# Altium footprint library Package_DFN_QFN_SON.PcbLib: 78 footprints (part 3 of 5)
Each footprint in its own frame and in the unit in brackets; x right, y up, seen from the top. Pads: shape width x height; smd on the part's side, far side on the other; paste and mask are expansions set on the pad; w line width, h text height; cw(c..) or ccw(c..) is an arc to the next point about the centre after c.
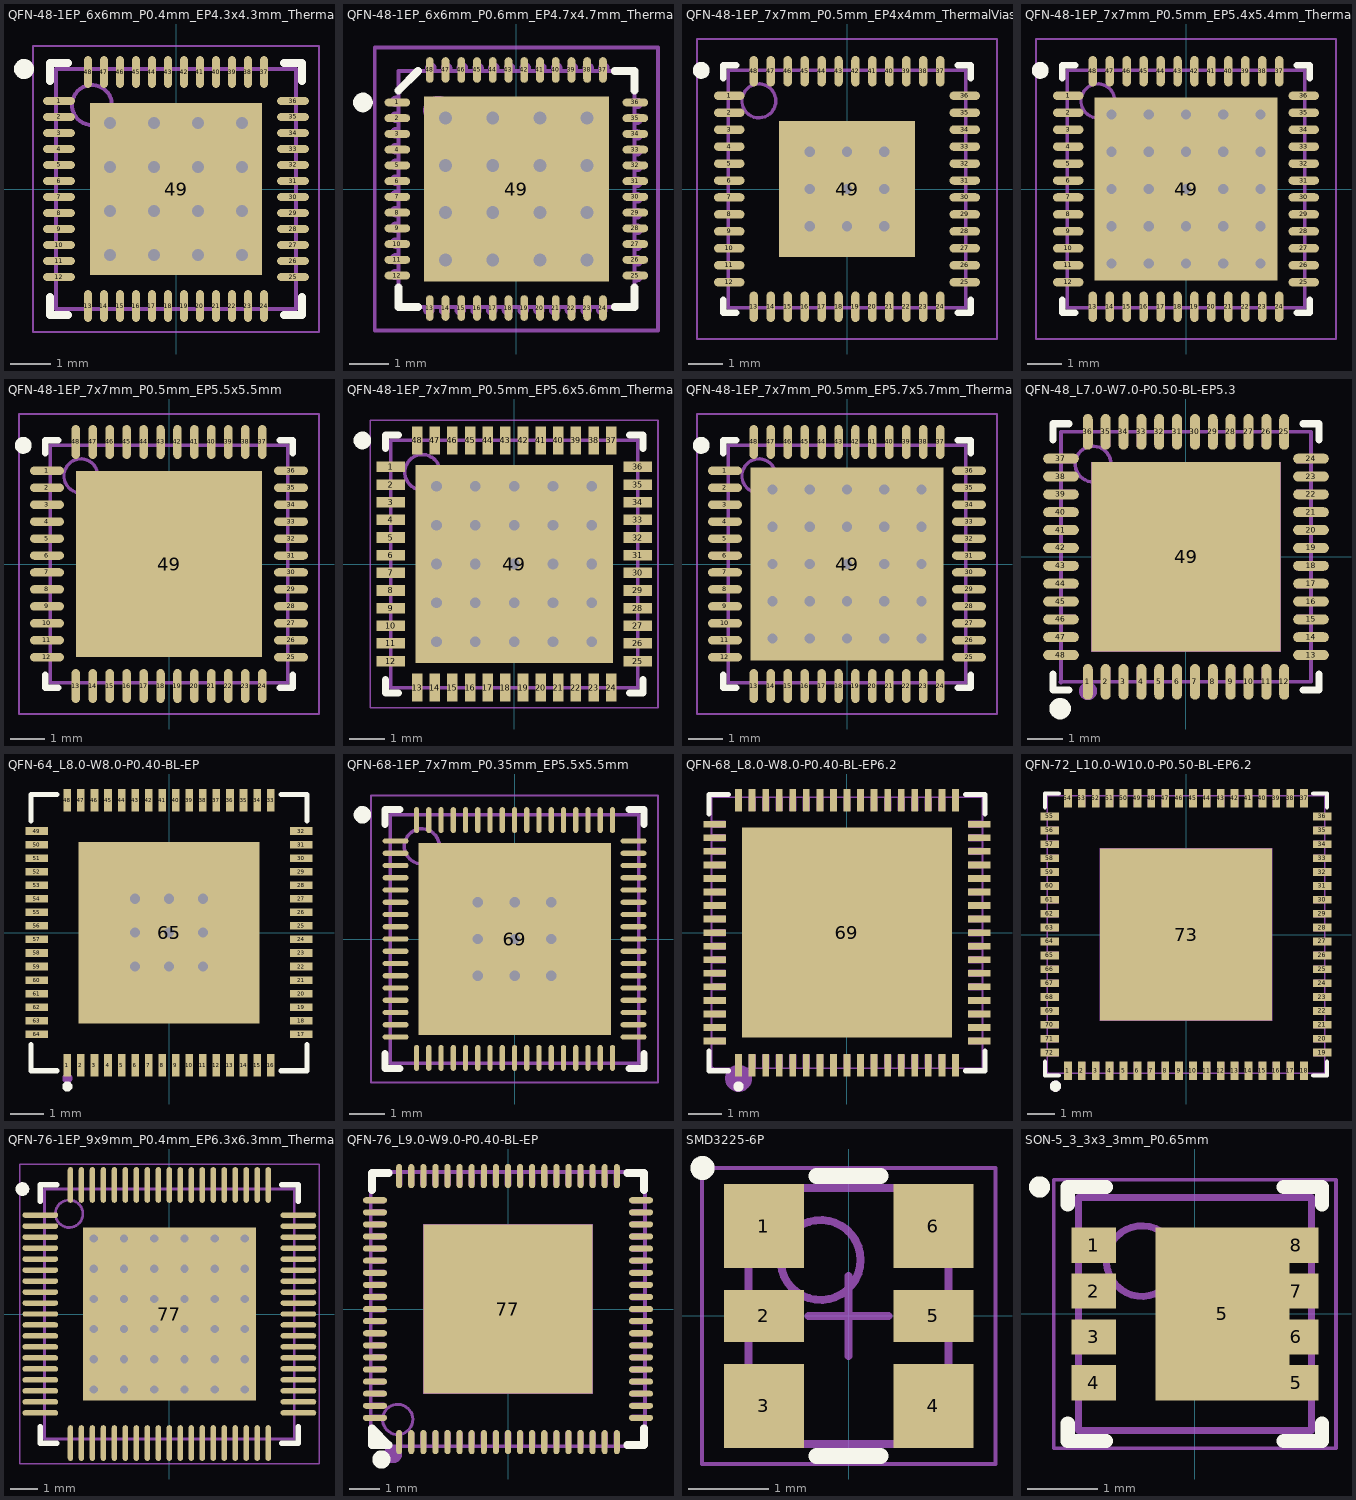
[diagram p2: the footprints below, top view; thin cyan lines are the x and y axes]

## QFN-48-1EP_6x6mm_P0.4mm_EP4.3x4.3mm_ThermalVias [mm] "QFN, 48-Leads, Body 6.00x6.00mm, Pitch 0.40mm, Thermal Pad 4.30x4.30mm, IPC Medium Density"
height 0.94
pads (49):
  oval 0.8x0.2 smd: 1(-2.925,2.2) 2(-2.925,1.8) 3(-2.925,1.4) 4(-2.925,1) 5(-2.925,0.6) 6(-2.925,0.2) 7(-2.925,-0.2) 8(-2.925,-0.6) 9(-2.925,-1) 10(-2.925,-1.4) 11(-2.925,-1.8) 12(-2.925,-2.2) 25(2.925,-2.2) 26(2.925,-1.8) 27(2.925,-1.4) 28(2.925,-1) 29(2.925,-0.6) 30(2.925,-0.2) 31(2.925,0.2) 32(2.925,0.6) 33(2.925,1) 34(2.925,1.4) 35(2.925,1.8) 36(2.925,2.2)
  oval 0.2x0.8 smd: 13(-2.2,-2.925) 14(-1.8,-2.925) 15(-1.4,-2.925) 16(-1,-2.925) 17(-0.6,-2.925) 18(-0.2,-2.925) 19(0.2,-2.925) 20(0.6,-2.925) 21(1,-2.925) 22(1.4,-2.925) 23(1.8,-2.925) 24(2.2,-2.925) 37(2.2,2.925) 38(1.8,2.925) 39(1.4,2.925) 40(1,2.925) 41(0.6,2.925) 42(0.2,2.925) 43(-0.2,2.925) 44(-0.6,2.925) 45(-1,2.925) 46(-1.4,2.925) 47(-1.8,2.925) 48(-2.2,2.925)
  rect 4.3x4.3 smd: 49(0,0)
via -1.65,-0.55 diameter 0.5 hole 0.3
via -0.55,-0.55 diameter 0.5 hole 0.3
via 0.55,-0.55 diameter 0.5 hole 0.3
via 1.65,-0.55 diameter 0.5 hole 0.3
via -1.65,-1.65 diameter 0.5 hole 0.3
via -0.55,-1.65 diameter 0.5 hole 0.3
via 0.55,-1.65 diameter 0.5 hole 0.3
via 1.65,-1.65 diameter 0.5 hole 0.3
via -1.65,1.65 diameter 0.5 hole 0.3
via -0.55,1.65 diameter 0.5 hole 0.3
via 0.55,1.65 diameter 0.5 hole 0.3
via 1.65,1.65 diameter 0.5 hole 0.3
via -1.65,0.55 diameter 0.5 hole 0.3
via -0.55,0.55 diameter 0.5 hole 0.3
via 0.55,0.55 diameter 0.5 hole 0.3
via 1.65,0.55 diameter 0.5 hole 0.3
Top Overlay:
  circle w0.25: c-3.8,3 r0.125
  lines w0.2: -3.15,-2.7 -3.15,-3.15 -2.7,-3.15 ; -3.15,2.7 -3.15,3.15 -2.7,3.15 ; 2.7,-3.15 3.15,-3.15 3.15,-2.7 ; 2.7,3.15 3.15,3.15 3.15,2.7
Mechanical 13:
  circle w0.1: c-2.1,2.1 r0.5
  lines w0.1: -3,-3 3,-3 3,3 -3,3 -3,-3
Mechanical 15:
  lines w0.05: -3.575,-3.575 3.575,-3.575 3.575,3.575 -3.575,3.575 -3.575,-3.575
  lines w0.1: -0.5,0 0.5,0 ; 0,-0.5 0,0.5
3D body "QFN40P600X600X94_HS-49N.step": height 0.94, standoff 0, extent -3.01,-3.01 3.01,3.01

## QFN-48-1EP_6x6mm_P0.6mm_EP4.7x4.7mm_ThermalVias [mm]
pads (49):
  oval 0.65x0.2 smd mask+0.05: 1(-3.025,2.2) 2(-3.025,1.8) 3(-3.025,1.4) 4(-3.025,1) 5(-3.025,0.6) 6(-3.025,0.2) 7(-3.025,-0.2) 8(-3.025,-0.6) 9(-3.025,-1) 10(-3.025,-1.4) 11(-3.025,-1.8) 12(-3.025,-2.2) 25(3.025,-2.2) 26(3.025,-1.8) 27(3.025,-1.4) 28(3.025,-1) 29(3.025,-0.6) 30(3.025,-0.2) 31(3.025,0.2) 32(3.025,0.6) 33(3.025,1) 34(3.025,1.4) 35(3.025,1.8) 36(3.025,2.2)
  oval 0.2x0.65 smd mask+0.05: 13(-2.2,-3.025) 14(-1.8,-3.025) 15(-1.4,-3.025) 16(-1,-3.025) 17(-0.6,-3.025) 18(-0.2,-3.025) 19(0.2,-3.025) 20(0.6,-3.025) 21(1,-3.025) 22(1.4,-3.025) 23(1.8,-3.025) 24(2.2,-3.025) 37(2.2,3.025) 38(1.8,3.025) 39(1.4,3.025) 40(1,3.025) 41(0.6,3.025) 42(0.2,3.025) 43(-0.2,3.025) 44(-0.6,3.025) 45(-1,3.025) 46(-1.4,3.025) 47(-1.8,3.025) 48(-2.2,3.025)
  rect 4.7x4.7 smd: 49(0,0)
via 1.8,-1.8 diameter 0.66 hole 0.33
via 0.6,-1.8 diameter 0.66 hole 0.33
via -0.6,-1.8 diameter 0.66 hole 0.33
via -1.8,-1.8 diameter 0.66 hole 0.33
via 1.8,-0.6 diameter 0.66 hole 0.33
via 0.6,-0.6 diameter 0.66 hole 0.33
via -0.6,-0.6 diameter 0.66 hole 0.33
via -1.8,-0.6 diameter 0.66 hole 0.33
via 1.8,0.6 diameter 0.66 hole 0.33
via 0.6,0.6 diameter 0.66 hole 0.33
via -0.6,0.6 diameter 0.66 hole 0.33
via -1.8,0.6 diameter 0.66 hole 0.33
via 1.8,1.8 diameter 0.66 hole 0.33
via 0.6,1.8 diameter 0.66 hole 0.33
via -0.6,1.8 diameter 0.66 hole 0.33
via -1.8,1.8 diameter 0.66 hole 0.33
Top Overlay:
  circle w0.25: c-3.9,2.2 r0.125
  lines w0.2: -3,-2.5 -3,-3 -2.5,-3 ; -3,2.5 -2.5,3 ; 2.5,-3 3,-3 3,-2.5 ; 2.5,3 3,3 3,2.5
Mechanical 7:
  circle w0.1: c-2,2 r0.32
  lines w0.1: -3,-2.269 -3.071,-2.269 cw(c-3.071,-2.174) -3.071,-2.079 -3,-2.079 ; -3,-1.869 -3.071,-1.869 cw(c-3.071,-1.774) -3.071,-1.679 -3,-1.679 ; -3,-1.469 -3.071,-1.469 cw(c-3.071,-1.374) -3.071,-1.279 -3,-1.279 ; -3,-1.069 -3.071,-1.069 cw(c-3.071,-0.974) -3.071,-0.879 -3,-0.879 ; -3,-0.669 -3.071,-0.669 cw(c-3.071,-0.574) -3.071,-0.479 -3,-0.479 ; -3,-0.269 -3.071,-0.269 cw(c-3.071,-0.174) -3.071,-0.079 -3,-0.079 ; -3,0.131 -3.071,0.131 cw(c-3.071,0.226) -3.071,0.321 -3,0.321 ; -3,0.531 -3.071,0.531 cw(c-3.071,0.626) -3.071,0.721 -3,0.721 ; -3,0.931 -3.071,0.931 cw(c-3.071,1.026) -3.071,1.121 -3,1.121 ; -3,1.331 -3.071,1.331 cw(c-3.071,1.426) -3.071,1.521 -3,1.521 ; -3,1.731 -3.071,1.731 cw(c-3.071,1.826) -3.071,1.921 -3,1.921 ; -3,2.131 -3.071,2.131 cw(c-3.071,2.226) -3.071,2.321 -3,2.321 ; -2.321,-3 -2.321,-3.071 ccw(c-2.226,-3.071) -2.131,-3.071 -2.131,-3 ; -2.269,3 -2.269,3.071 cw(c-2.174,3.071) -2.079,3.071 -2.079,3 ; -1.921,-3 -1.921,-3.071 ccw(c-1.826,-3.071) -1.731,-3.071 -1.731,-3 ; -1.869,3 -1.869,3.071 cw(c-1.774,3.071) -1.679,3.071 -1.679,3 ; -1.521,-3 -1.521,-3.071 ccw(c-1.426,-3.071) -1.331,-3.071 -1.331,-3 ; -1.469,3 -1.469,3.071 cw(c-1.374,3.071) -1.279,3.071 -1.279,3 ; -1.121,-3 -1.121,-3.071 ccw(c-1.026,-3.071) -0.931,-3.071 -0.931,-3 ; -1.069,3 -1.069,3.071 cw(c-0.974,3.071) -0.879,3.071 -0.879,3 ; -0.721,-3 -0.721,-3.071 ccw(c-0.626,-3.071) -0.531,-3.071 -0.531,-3 ; -0.669,3 -0.669,3.071 cw(c-0.574,3.071) -0.479,3.071 -0.479,3 ; -0.321,-3 -0.321,-3.071 ccw(c-0.226,-3.071) -0.131,-3.071 -0.131,-3 ; -0.269,3 -0.269,3.071 cw(c-0.174,3.071) -0.079,3.071 -0.079,3 ; 0.079,-3 0.079,-3.071 ccw(c0.174,-3.071) 0.269,-3.071 0.269,-3 ; 0.131,3 0.131,3.071 cw(c0.226,3.071) 0.321,3.071 0.321,3 ; 0.479,-3 0.479,-3.071 ccw(c0.574,-3.071) 0.669,-3.071 0.669,-3 ; 0.531,3 0.531,3.071 cw(c0.626,3.071) 0.721,3.071 0.721,3 ; 0.879,-3 0.879,-3.071 ccw(c0.974,-3.071) 1.069,-3.071 1.069,-3 ; 0.931,3 0.931,3.071 cw(c1.026,3.071) 1.121,3.071 1.121,3 ; 1.279,-3 1.279,-3.071 ccw(c1.374,-3.071) 1.469,-3.071 1.469,-3 ; 1.331,3 1.331,3.071 cw(c1.426,3.071) 1.521,3.071 1.521,3 ; 1.679,-3 1.679,-3.071 ccw(c1.774,-3.071) 1.869,-3.071 1.869,-3 ; 1.731,3 1.731,3.071 cw(c1.826,3.071) 1.921,3.071 1.921,3 ; 2.079,-3 2.079,-3.071 ccw(c2.174,-3.071) 2.269,-3.071 2.269,-3 ; 2.131,3 2.131,3.071 cw(c2.226,3.071) 2.321,3.071 2.321,3 ; 3,-2.321 3.071,-2.321 ccw(c3.071,-2.226) 3.071,-2.131 3,-2.131 ; 3,-1.921 3.071,-1.921 ccw(c3.071,-1.826) 3.071,-1.731 3,-1.731 ; 3,-1.521 3.071,-1.521 ccw(c3.071,-1.426) 3.071,-1.331 3,-1.331 ; 3,-1.121 3.071,-1.121 ccw(c3.071,-1.026) 3.071,-0.931 3,-0.931 ; 3,-0.721 3.071,-0.721 ccw(c3.071,-0.626) 3.071,-0.531 3,-0.531 ; 3,-0.321 3.071,-0.321 ccw(c3.071,-0.226) 3.071,-0.131 3,-0.131 ; 3,0.079 3.071,0.079 ccw(c3.071,0.174) 3.071,0.269 3,0.269 ; 3,0.479 3.071,0.479 ccw(c3.071,0.574) 3.071,0.669 3,0.669 ; 3,0.879 3.071,0.879 ccw(c3.071,0.974) 3.071,1.069 3,1.069 ; 3,1.279 3.071,1.279 ccw(c3.071,1.374) 3.071,1.469 3,1.469 ; 3,1.679 3.071,1.679 ccw(c3.071,1.774) 3.071,1.869 3,1.869 ; 3,2.079 3.071,2.079 ccw(c3.071,2.174) 3.071,2.269 3,2.269 ; -3,-3 3,-3 3,3 -3,3 -3,-3
  text ".Designator" at -1.1,-0.2 h0.38
Mechanical 15:
  lines w0.1: -0.5,0 0.5,0 ; 0,-0.5 0,0.5 ; -3.6,-3.6 3.6,-3.6 3.6,3.6 -3.6,3.6 -3.6,-3.6
3D body "User Library-QFN48.step": height 0.86, standoff -0.01, extent -3.02,-3.02 3.02,3.02

## QFN-48-1EP_7x7mm_P0.5mm_EP4x4mm_ThermalVias [mm] "QFN, 48-Leads, Body 7.00x7.00mm, Pitch 0.50mm, Thermal Pad 5.40x5.40mm, IPC Low Density"
height 0.94
pads (49):
  oval 0.9x0.25 smd: 1(-3.475,2.75) 2(-3.475,2.25) 3(-3.475,1.75) 4(-3.475,1.25) 5(-3.475,0.75) 6(-3.475,0.25) 7(-3.475,-0.25) 8(-3.475,-0.75) 9(-3.475,-1.25) 10(-3.475,-1.75) 11(-3.475,-2.25) 12(-3.475,-2.75) 25(3.475,-2.75) 26(3.475,-2.25) 27(3.475,-1.75) 28(3.475,-1.25) 29(3.475,-0.75) 30(3.475,-0.25) 31(3.475,0.25) 32(3.475,0.75) 33(3.475,1.25) 34(3.475,1.75) 35(3.475,2.25) 36(3.475,2.75)
  oval 0.25x0.9 smd: 13(-2.75,-3.475) 14(-2.25,-3.475) 15(-1.75,-3.475) 16(-1.25,-3.475) 17(-0.75,-3.475) 18(-0.25,-3.475) 19(0.25,-3.475) 20(0.75,-3.475) 21(1.25,-3.475) 22(1.75,-3.475) 23(2.25,-3.475) 24(2.75,-3.475) 37(2.75,3.475) 38(2.25,3.475) 39(1.75,3.475) 40(1.25,3.475) 41(0.75,3.475) 42(0.25,3.475) 43(-0.25,3.475) 44(-0.75,3.475) 45(-1.25,3.475) 46(-1.75,3.475) 47(-2.25,3.475) 48(-2.75,3.475)
  rect 4x4 smd: 49(0,0)
via 1.1,-1.1 diameter 0.5 hole 0.3
via 0,-1.1 diameter 0.5 hole 0.3
via -1.1,-1.1 diameter 0.5 hole 0.3
via 1.1,0 diameter 0.5 hole 0.3
via 0,0 diameter 0.5 hole 0.3
via -1.1,0 diameter 0.5 hole 0.3
via 1.1,1.1 diameter 0.5 hole 0.3
via 0,1.1 diameter 0.5 hole 0.3
via -1.1,1.1 diameter 0.5 hole 0.3
Top Overlay:
  circle w0.25: c-4.3,3.5 r0.125
  lines w0.2: -3.65,-3.275 -3.65,-3.65 -3.275,-3.65 ; -3.65,3.275 -3.65,3.65 -3.275,3.65 ; 3.275,-3.65 3.65,-3.65 3.65,-3.275 ; 3.275,3.65 3.65,3.65 3.65,3.275
Mechanical 13:
  circle w0.1: c-2.6,2.6 r0.5
  lines w0.1: -3.5,-3.5 3.5,-3.5 3.5,3.5 -3.5,3.5 -3.5,-3.5
Mechanical 15:
  lines w0.05: -4.425,-4.425 4.425,-4.425 4.425,4.425 -4.425,4.425 -4.425,-4.425
  lines w0.1: -0.5,0 0.5,0 ; 0,-0.5 0,0.5
3D body "QFN50P700X700X94_HS-49M.step": height 0.94, standoff 0, extent -3.51,-3.51 3.51,3.51

## QFN-48-1EP_7x7mm_P0.5mm_EP5.4x5.4mm_ThermalVias [mm] "QFN, 48-Leads, Body 7.00x7.00mm, Pitch 0.50mm, Thermal Pad 5.40x5.40mm, IPC Low Density"
height 0.94
pads (49):
  oval 0.9x0.25 smd: 1(-3.475,2.75) 2(-3.475,2.25) 3(-3.475,1.75) 4(-3.475,1.25) 5(-3.475,0.75) 6(-3.475,0.25) 7(-3.475,-0.25) 8(-3.475,-0.75) 9(-3.475,-1.25) 10(-3.475,-1.75) 11(-3.475,-2.25) 12(-3.475,-2.75) 25(3.475,-2.75) 26(3.475,-2.25) 27(3.475,-1.75) 28(3.475,-1.25) 29(3.475,-0.75) 30(3.475,-0.25) 31(3.475,0.25) 32(3.475,0.75) 33(3.475,1.25) 34(3.475,1.75) 35(3.475,2.25) 36(3.475,2.75)
  oval 0.25x0.9 smd: 13(-2.75,-3.475) 14(-2.25,-3.475) 15(-1.75,-3.475) 16(-1.25,-3.475) 17(-0.75,-3.475) 18(-0.25,-3.475) 19(0.25,-3.475) 20(0.75,-3.475) 21(1.25,-3.475) 22(1.75,-3.475) 23(2.25,-3.475) 24(2.75,-3.475) 37(2.75,3.475) 38(2.25,3.475) 39(1.75,3.475) 40(1.25,3.475) 41(0.75,3.475) 42(0.25,3.475) 43(-0.25,3.475) 44(-0.75,3.475) 45(-1.25,3.475) 46(-1.75,3.475) 47(-2.25,3.475) 48(-2.75,3.475)
  rect 5.4x5.4 smd: 49(0,0)
via 2.2,-2.2 diameter 0.5 hole 0.3
via 1.1,-2.2 diameter 0.5 hole 0.3
via 0,-2.2 diameter 0.5 hole 0.3
via -1.1,-2.2 diameter 0.5 hole 0.3
via -2.2,-2.2 diameter 0.5 hole 0.3
via 2.2,-1.1 diameter 0.5 hole 0.3
via 1.1,-1.1 diameter 0.5 hole 0.3
via 0,-1.1 diameter 0.5 hole 0.3
via -1.1,-1.1 diameter 0.5 hole 0.3
via -2.2,-1.1 diameter 0.5 hole 0.3
via 2.2,0 diameter 0.5 hole 0.3
via 1.1,0 diameter 0.5 hole 0.3
via 0,0 diameter 0.5 hole 0.3
via -1.1,0 diameter 0.5 hole 0.3
via -2.2,0 diameter 0.5 hole 0.3
via 2.2,1.1 diameter 0.5 hole 0.3
via 1.1,1.1 diameter 0.5 hole 0.3
via 0,1.1 diameter 0.5 hole 0.3
via -1.1,1.1 diameter 0.5 hole 0.3
via -2.2,1.1 diameter 0.5 hole 0.3
via 2.2,2.2 diameter 0.5 hole 0.3
via 1.1,2.2 diameter 0.5 hole 0.3
via 0,2.2 diameter 0.5 hole 0.3
via -1.1,2.2 diameter 0.5 hole 0.3
via -2.2,2.2 diameter 0.5 hole 0.3
Top Overlay:
  circle w0.25: c-4.3,3.5 r0.125
  lines w0.2: -3.65,-3.275 -3.65,-3.65 -3.275,-3.65 ; -3.65,3.275 -3.65,3.65 -3.275,3.65 ; 3.275,-3.65 3.65,-3.65 3.65,-3.275 ; 3.275,3.65 3.65,3.65 3.65,3.275
Mechanical 13:
  circle w0.1: c-2.6,2.6 r0.5
  lines w0.1: -3.5,-3.5 3.5,-3.5 3.5,3.5 -3.5,3.5 -3.5,-3.5
Mechanical 15:
  lines w0.05: -4.425,-4.425 4.425,-4.425 4.425,4.425 -4.425,4.425 -4.425,-4.425
  lines w0.1: -0.5,0 0.5,0 ; 0,-0.5 0,0.5
3D body "QFN50P700X700X94_HS-49M.step": height 0.94, standoff 0, extent -3.51,-3.51 3.51,3.51

## QFN-48-1EP_7x7mm_P0.5mm_EP5.5x5.5mm [mm] "QFN, 48-Leads, Body 7.00x7.00mm, Pitch 0.50mm, Thermal Pad 5.70x5.70mm, IPC Low Density"
height 0.94
pads (49):
  oval 1x0.25 smd: 1(-3.6,2.75) 2(-3.6,2.25) 3(-3.6,1.75) 4(-3.6,1.25) 5(-3.6,0.75) 6(-3.6,0.25) 7(-3.6,-0.25) 8(-3.6,-0.75) 9(-3.6,-1.25) 10(-3.6,-1.75) 11(-3.6,-2.25) 12(-3.6,-2.75) 25(3.6,-2.75) 26(3.6,-2.25) 27(3.6,-1.75) 28(3.6,-1.25) 29(3.6,-0.75) 30(3.6,-0.25) 31(3.6,0.25) 32(3.6,0.75) 33(3.6,1.25) 34(3.6,1.75) 35(3.6,2.25) 36(3.6,2.75)
  oval 0.25x1 smd: 13(-2.75,-3.6) 14(-2.25,-3.6) 15(-1.75,-3.6) 16(-1.25,-3.6) 17(-0.75,-3.6) 18(-0.25,-3.6) 19(0.25,-3.6) 20(0.75,-3.6) 21(1.25,-3.6) 22(1.75,-3.6) 23(2.25,-3.6) 24(2.75,-3.6) 37(2.75,3.6) 38(2.25,3.6) 39(1.75,3.6) 40(1.25,3.6) 41(0.75,3.6) 42(0.25,3.6) 43(-0.25,3.6) 44(-0.75,3.6) 45(-1.25,3.6) 46(-1.75,3.6) 47(-2.25,3.6) 48(-2.75,3.6)
  rect 5.5x5.5 smd: 49(0,0)
Top Overlay:
  circle w0.25: c-4.3,3.5 r0.125
  lines w0.2: -3.65,-3.275 -3.65,-3.65 -3.275,-3.65 ; -3.65,3.275 -3.65,3.65 -3.275,3.65 ; 3.275,-3.65 3.65,-3.65 3.65,-3.275 ; 3.275,3.65 3.65,3.65 3.65,3.275
Mechanical 13:
  circle w0.1: c-2.6,2.6 r0.5
  lines w0.1: -3.5,-3.5 -3.5,3.5 3.5,3.5 3.5,-3.5 -3.5,-3.5
Mechanical 15:
  lines w0.05: -4.425,-4.425 -4.425,4.425 4.425,4.425 4.425,-4.425 -4.425,-4.425
  lines w0.1: -0.5,0 0.5,0 ; 0,-0.5 0,0.5
3D body "QFN50P700X700X94_HS-49M.step": height 0.94, standoff 0, extent -3.51,-3.51 3.51,3.51

## QFN-48-1EP_7x7mm_P0.5mm_EP5.6x5.6mm_ThermalVias [mm] "QFN, 48-Leads, Body 7.00x7.00mm, Pitch 0.50mm, Thermal Pad 5.60x5.60mm, IPC Medium Density"
height 0.5
pads (49):
  rect 0.8x0.3 smd: 1(-3.5,2.75) 2(-3.5,2.25) 3(-3.5,1.75) 4(-3.5,1.25) 5(-3.5,0.75) 6(-3.5,0.25) 7(-3.5,-0.25) 8(-3.5,-0.75) 9(-3.5,-1.25) 10(-3.5,-1.75) 11(-3.5,-2.25) 12(-3.5,-2.75) 25(3.5,-2.75) 26(3.5,-2.25) 27(3.5,-1.75) 28(3.5,-1.25) 29(3.5,-0.75) 30(3.5,-0.25) 31(3.5,0.25) 32(3.5,0.75) 33(3.5,1.25) 34(3.5,1.75) 35(3.5,2.25) 36(3.5,2.75)
  rect 0.3x0.8 smd: 13(-2.75,-3.5) 14(-2.25,-3.5) 15(-1.75,-3.5) 16(-1.25,-3.5) 17(-0.75,-3.5) 18(-0.25,-3.5) 19(0.25,-3.5) 20(0.75,-3.5) 21(1.25,-3.5) 22(1.75,-3.5) 23(2.25,-3.5) 24(2.75,-3.5) 37(2.75,3.5) 38(2.25,3.5) 39(1.75,3.5) 40(1.25,3.5) 41(0.75,3.5) 42(0.25,3.5) 43(-0.25,3.5) 44(-0.75,3.5) 45(-1.25,3.5) 46(-1.75,3.5) 47(-2.25,3.5) 48(-2.75,3.5)
  rect 5.6x5.6 smd: 49(0,0)
via 2.2,-2.2 diameter 0.5 hole 0.3
via 1.1,-2.2 diameter 0.5 hole 0.3
via 0,-2.2 diameter 0.5 hole 0.3
via -1.1,-2.2 diameter 0.5 hole 0.3
via -2.2,-2.2 diameter 0.5 hole 0.3
via 2.2,-1.1 diameter 0.5 hole 0.3
via 1.1,-1.1 diameter 0.5 hole 0.3
via 0,-1.1 diameter 0.5 hole 0.3
via -1.1,-1.1 diameter 0.5 hole 0.3
via -2.2,-1.1 diameter 0.5 hole 0.3
via 2.2,0 diameter 0.5 hole 0.3
via 1.1,0 diameter 0.5 hole 0.3
via 0,0 diameter 0.5 hole 0.3
via -1.1,0 diameter 0.5 hole 0.3
via -2.2,0 diameter 0.5 hole 0.3
via 2.2,1.1 diameter 0.5 hole 0.3
via 1.1,1.1 diameter 0.5 hole 0.3
via 0,1.1 diameter 0.5 hole 0.3
via -1.1,1.1 diameter 0.5 hole 0.3
via -2.2,1.1 diameter 0.5 hole 0.3
via 2.2,2.2 diameter 0.5 hole 0.3
via 1.1,2.2 diameter 0.5 hole 0.3
via 0,2.2 diameter 0.5 hole 0.3
via -1.1,2.2 diameter 0.5 hole 0.3
via -2.2,2.2 diameter 0.5 hole 0.3
Top Overlay:
  circle w0.25: c-4.3,3.5 r0.125
  lines w0.2: -3.65,-3.275 -3.65,-3.65 -3.275,-3.65 ; -3.65,3.275 -3.65,3.65 -3.275,3.65 ; 3.275,-3.65 3.65,-3.65 3.65,-3.275 ; 3.275,3.65 3.65,3.65 3.65,3.275
Mechanical 13:
  circle w0.1: c-2.6,2.6 r0.5
  lines w0.1: -3.5,-3.5 3.5,-3.5 3.5,3.5 -3.5,3.5 -3.5,-3.5
Mechanical 15:
  lines w0.05: -4.075,-4.075 4.075,-4.075 4.075,4.075 -4.075,4.075 -4.075,-4.075
  lines w0.1: -0.5,0 0.5,0 ; 0,-0.5 0,0.5
3D body "QFN50P700X700X50_HS-49N.step": height 0.5, standoff 0, extent -3.52,-3.52 3.52,3.52

## QFN-48-1EP_7x7mm_P0.5mm_EP5.7x5.7mm_ThermalVias [mm] "QFN, 48-Leads, Body 7.00x7.00mm, Pitch 0.50mm, Thermal Pad 5.70x5.70mm, IPC Low Density"
height 0.94
pads (49):
  oval 1x0.25 smd: 1(-3.6,2.75) 2(-3.6,2.25) 3(-3.6,1.75) 4(-3.6,1.25) 5(-3.6,0.75) 6(-3.6,0.25) 7(-3.6,-0.25) 8(-3.6,-0.75) 9(-3.6,-1.25) 10(-3.6,-1.75) 11(-3.6,-2.25) 12(-3.6,-2.75) 25(3.6,-2.75) 26(3.6,-2.25) 27(3.6,-1.75) 28(3.6,-1.25) 29(3.6,-0.75) 30(3.6,-0.25) 31(3.6,0.25) 32(3.6,0.75) 33(3.6,1.25) 34(3.6,1.75) 35(3.6,2.25) 36(3.6,2.75)
  oval 0.25x1 smd: 13(-2.75,-3.6) 14(-2.25,-3.6) 15(-1.75,-3.6) 16(-1.25,-3.6) 17(-0.75,-3.6) 18(-0.25,-3.6) 19(0.25,-3.6) 20(0.75,-3.6) 21(1.25,-3.6) 22(1.75,-3.6) 23(2.25,-3.6) 24(2.75,-3.6) 37(2.75,3.6) 38(2.25,3.6) 39(1.75,3.6) 40(1.25,3.6) 41(0.75,3.6) 42(0.25,3.6) 43(-0.25,3.6) 44(-0.75,3.6) 45(-1.25,3.6) 46(-1.75,3.6) 47(-2.25,3.6) 48(-2.75,3.6)
  rect 5.7x5.7 smd: 49(0,0)
via 2.2,-2.2 diameter 0.5 hole 0.3
via 1.1,-2.2 diameter 0.5 hole 0.3
via 0,-2.2 diameter 0.5 hole 0.3
via -1.1,-2.2 diameter 0.5 hole 0.3
via -2.2,-2.2 diameter 0.5 hole 0.3
via 2.2,-1.1 diameter 0.5 hole 0.3
via 1.1,-1.1 diameter 0.5 hole 0.3
via 0,-1.1 diameter 0.5 hole 0.3
via -1.1,-1.1 diameter 0.5 hole 0.3
via -2.2,-1.1 diameter 0.5 hole 0.3
via 2.2,0 diameter 0.5 hole 0.3
via 1.1,0 diameter 0.5 hole 0.3
via 0,0 diameter 0.5 hole 0.3
via -1.1,0 diameter 0.5 hole 0.3
via -2.2,0 diameter 0.5 hole 0.3
via 2.2,1.1 diameter 0.5 hole 0.3
via 1.1,1.1 diameter 0.5 hole 0.3
via 0,1.1 diameter 0.5 hole 0.3
via -1.1,1.1 diameter 0.5 hole 0.3
via -2.2,1.1 diameter 0.5 hole 0.3
via 2.2,2.2 diameter 0.5 hole 0.3
via 1.1,2.2 diameter 0.5 hole 0.3
via 0,2.2 diameter 0.5 hole 0.3
via -1.1,2.2 diameter 0.5 hole 0.3
via -2.2,2.2 diameter 0.5 hole 0.3
Top Overlay:
  circle w0.25: c-4.3,3.5 r0.125
  lines w0.2: -3.65,-3.275 -3.65,-3.65 -3.275,-3.65 ; -3.65,3.275 -3.65,3.65 -3.275,3.65 ; 3.275,-3.65 3.65,-3.65 3.65,-3.275 ; 3.275,3.65 3.65,3.65 3.65,3.275
Mechanical 13:
  circle w0.1: c-2.6,2.6 r0.5
  lines w0.1: -3.5,-3.5 3.5,-3.5 3.5,3.5 -3.5,3.5 -3.5,-3.5
Mechanical 15:
  lines w0.05: -4.425,-4.425 4.425,-4.425 4.425,4.425 -4.425,4.425 -4.425,-4.425
  lines w0.1: -0.5,0 0.5,0 ; 0,-0.5 0,0.5
3D body "QFN50P700X700X94_HS-49M.step": height 0.94, standoff 0, extent -3.51,-3.51 3.51,3.51

## QFN-48_L7.0-W7.0-P0.50-BL-EP5.3 [mm]
pads (49):
  oval 0.28x1 smd paste+0 mask+0.051: 1(-2.75,-3.5) 2(-2.25,-3.5) 3(-1.75,-3.5) 4(-1.25,-3.5) 5(-0.75,-3.5) 6(-0.25,-3.5) 7(0.25,-3.5) 8(0.75,-3.5) 9(1.25,-3.5) 10(1.75,-3.5) 11(2.25,-3.5) 12(2.75,-3.5) 25(2.75,3.5) 26(2.25,3.5) 27(1.75,3.5) 28(1.25,3.5) 29(0.75,3.5) 30(0.25,3.5) 31(-0.25,3.5) 32(-0.75,3.5) 33(-1.25,3.5) 34(-1.75,3.5) 35(-2.25,3.5) 36(-2.75,3.5)
  oval 1x0.28 smd paste+0 mask+0.051: 13(3.5,-2.75) 14(3.5,-2.25) 15(3.5,-1.75) 16(3.5,-1.25) 17(3.5,-0.75) 18(3.5,-0.25) 19(3.5,0.25) 20(3.5,0.75) 21(3.5,1.25) 22(3.5,1.75) 23(3.5,2.25) 24(3.5,2.75) 37(-3.5,2.75) 38(-3.5,2.25) 39(-3.5,1.75) 40(-3.5,1.25) 41(-3.5,0.75) 42(-3.5,0.25) 43(-3.5,-0.25) 44(-3.5,-0.75) 45(-3.5,-1.25) 46(-3.5,-1.75) 47(-3.5,-2.25) 48(-3.5,-2.75)
  rect 5.3x5.3 smd paste+0 mask+0.051: 49(0,0)
Top Overlay:
  lines w0.2: -3.725,-3.275 -3.725,-3.725 -3.275,-3.725 ; -3.725,3.275 -3.725,3.725 -3.275,3.725 ; 3.275,-3.725 3.725,-3.725 3.725,-3.275 ; 3.275,3.725 3.725,3.725 3.725,3.275
  lines w0.3: -3.525,-4.1 ccw(c-3.524,-4.25) -3.523,-4.1
Mechanical 6:
  circle w0.254: c-2.743,-3.759 r0.127
Mechanical 13:
  circle w0.1: c-2.6,2.6 r0.5
  lines w0.1: -3.5,-3.5 3.5,-3.5 3.5,3.5 -3.5,3.5 -3.5,-3.5
Mechanical 15:
  drawing of 54 lines, arcs and shapes, not listed
3D body "QFN50P700X700X94_HS-49M.step": height 0.94, standoff 0, extent -3.51,-3.51 3.51,3.51

## QFN-64_L8.0-W8.0-P0.40-BL-EP [mm]
pads (65):
  rect 0.224x0.665 smd: 1(-3,-3.908) 2(-2.6,-3.908) 3(-2.2,-3.908) 4(-1.8,-3.908) 5(-1.4,-3.908) 6(-1,-3.908) 7(-0.6,-3.908) 8(-0.2,-3.908) 9(0.2,-3.908) 10(0.6,-3.908) 11(1,-3.908) 12(1.4,-3.908) 13(1.8,-3.908) 14(2.2,-3.908) 15(2.6,-3.908) 16(3,-3.908) 33(3,3.908) 34(2.6,3.908) 35(2.2,3.908) 36(1.8,3.908) 37(1.4,3.908) 38(1,3.908) 39(0.6,3.908) 40(0.2,3.908) 41(-0.2,3.908) 42(-0.6,3.908) 43(-1,3.908) 44(-1.4,3.908) 45(-1.8,3.908) 46(-2.2,3.908) 47(-2.6,3.908) 48(-3,3.908)
  rect 0.665x0.224 smd: 17(3.908,-3) 18(3.908,-2.6) 19(3.908,-2.2) 20(3.908,-1.8) 21(3.908,-1.4) 22(3.908,-1) 23(3.908,-0.6) 24(3.908,-0.2) 25(3.908,0.2) 26(3.908,0.6) 27(3.908,1) 28(3.908,1.4) 29(3.908,1.8) 30(3.908,2.2) 31(3.908,2.6) 32(3.908,3) 49(-3.908,3) 50(-3.908,2.6) 51(-3.908,2.2) 52(-3.908,1.8) 53(-3.908,1.4) 54(-3.908,1) 55(-3.908,0.6) 56(-3.908,0.2) 57(-3.908,-0.2) 58(-3.908,-0.6) 59(-3.908,-1) 60(-3.908,-1.4) 61(-3.908,-1.8) 62(-3.908,-2.2) 63(-3.908,-2.6) 64(-3.908,-3)
  rect 5.35x5.35 smd: 65(0,0)
via -1,-1 diameter 0.5 hole 0.3
via -1,1 diameter 0.5 hole 0.3
via -1,0 diameter 0.5 hole 0.3
via 0,-1 diameter 0.5 hole 0.3
via 1,-1 diameter 0.5 hole 0.3
via 1,1 diameter 0.5 hole 0.3
via 0,1 diameter 0.5 hole 0.3
via 1,0 diameter 0.5 hole 0.3
via 0,0 diameter 0.5 hole 0.3
Top Overlay:
  circle w0.15: c-3,-4.54 r0.075
  lines w0.152: -4.076,-3.303 -4.076,-4.076 -3.303,-4.076 ; -4.076,3.303 -4.076,4.076 -3.303,4.076 ; 3.303,-4.076 4.076,-4.076 4.076,-3.303 ; 3.303,4.076 4.076,4.076 4.076,3.303
Mechanical 15:
  circle w0.15: c-3,-4.3 r0.075

## QFN-68-1EP_7x7mm_P0.35mm_EP5.5x5.5mm [mm] "QFN, 68-Leads, Body 7.00x7.00mm, Pitch 0.35mm, Thermal Pad 5.5x5.5mm IPC Medium Density"
height 0.8
pads (69):
  oval 0.74x0.15 smd: 1(-3.4,2.8) 2(-3.4,2.45) 3(-3.4,2.1) 4(-3.4,1.75) 5(-3.4,1.4) 6(-3.4,1.05) 7(-3.4,0.7) 8(-3.4,0.35) 9(-3.4,0) 10(-3.4,-0.35) 11(-3.4,-0.7) 12(-3.4,-1.05) 13(-3.4,-1.4) 14(-3.4,-1.75) 15(-3.4,-2.1) 16(-3.4,-2.45) 17(-3.4,-2.8) 35(3.4,-2.8) 36(3.4,-2.45) 37(3.4,-2.1) 38(3.4,-1.75) 39(3.4,-1.4) 40(3.4,-1.05) 41(3.4,-0.7) 42(3.4,-0.35) 43(3.4,0) 44(3.4,0.35) 45(3.4,0.7) 46(3.4,1.05) 47(3.4,1.4) 48(3.4,1.75) 49(3.4,2.1) 50(3.4,2.45) 51(3.4,2.8)
  oval 0.15x0.74 smd: 18(-2.8,-3.4) 19(-2.45,-3.4) 20(-2.1,-3.4) 21(-1.75,-3.4) 22(-1.4,-3.4) 23(-1.05,-3.4) 24(-0.7,-3.4) 25(-0.35,-3.4) 26(0,-3.4) 27(0.35,-3.4) 28(0.7,-3.4) 29(1.05,-3.4) 30(1.4,-3.4) 31(1.75,-3.4) 32(2.1,-3.4) 33(2.45,-3.4) 34(2.8,-3.4) 52(2.8,3.4) 53(2.45,3.4) 54(2.1,3.4) 55(1.75,3.4) 56(1.4,3.4) 57(1.05,3.4) 58(0.7,3.4) 59(0.35,3.4) 60(0,3.4) 61(-0.35,3.4) 62(-0.7,3.4) 63(-1.05,3.4) 64(-1.4,3.4) 65(-1.75,3.4) 66(-2.1,3.4) 67(-2.45,3.4) 68(-2.8,3.4)
  rect 5.5x5.5 smd: 69(0,0)
via 0,0 diameter 0.6 hole 0.3
via 1.05,0 diameter 0.6 hole 0.3
via -1.05,0 diameter 0.6 hole 0.3
via 0,1.05 diameter 0.6 hole 0.3
via 0,-1.05 diameter 0.6 hole 0.3
via 1.05,-1.05 diameter 0.6 hole 0.3
via 1.05,1.05 diameter 0.6 hole 0.3
via -1.05,1.05 diameter 0.6 hole 0.3
via -1.05,-1.05 diameter 0.6 hole 0.3
Top Overlay:
  circle w0.25: c-4.35,3.55 r0.125
  lines w0.2: -3.7,-3.275 -3.7,-3.7 -3.275,-3.7 ; -3.7,3.275 -3.7,3.7 -3.275,3.7 ; 3.275,-3.7 3.7,-3.7 3.7,-3.275 ; 3.275,3.7 3.7,3.7 3.7,3.275
Mechanical 13:
  circle w0.1: c-2.65,2.65 r0.5
  lines w0.1: -3.55,-3.55 -3.55,3.55 3.55,3.55 3.55,-3.55 -3.55,-3.55
Mechanical 15:
  lines w0.05: -4.1,-4.1 -4.1,4.1 4.1,4.1 4.1,-4.1 -4.1,-4.1
  lines w0.1: -0.5,0 0.5,0 ; 0,-0.5 0,0.5
3D body "QFN35P700X700X80_HS-69N.step": height 0.8, standoff 0, extent -3.56,-3.56 3.56,3.56

## QFN-68_L8.0-W8.0-P0.40-BL-EP6.2 [mm]
pads (69):
  rect 0.2x0.665 smd paste-100 mask+0.051: 1(-3.2,-3.908) 2(-2.8,-3.908) 3(-2.4,-3.908) 4(-2,-3.908) 5(-1.6,-3.908) 6(-1.2,-3.908) 7(-0.8,-3.908) 8(-0.4,-3.908) 9(0,-3.908) 10(0.4,-3.908) 11(0.8,-3.908) 12(1.2,-3.908) 13(1.6,-3.908) 14(2,-3.908) 15(2.4,-3.908) 16(2.8,-3.908) 17(3.2,-3.908) 35(3.2,3.908) 36(2.8,3.908) 37(2.4,3.908) 38(2,3.908) 39(1.6,3.908) 40(1.2,3.908) 41(0.8,3.908) 42(0.4,3.908) 43(0,3.908) 44(-0.4,3.908) 45(-0.8,3.908) 46(-1.2,3.908) 47(-1.6,3.908) 48(-2,3.908) 49(-2.4,3.908) 50(-2.8,3.908) 51(-3.2,3.908)
  rect 0.665x0.2 smd paste-100 mask+0.051: 18(3.908,-3.2) 19(3.908,-2.8) 20(3.908,-2.4) 21(3.908,-2) 22(3.908,-1.6) 23(3.908,-1.2) 24(3.908,-0.8) 25(3.908,-0.4) 26(3.908,0) 27(3.908,0.4) 28(3.908,0.8) 29(3.908,1.2) 30(3.908,1.6) 31(3.908,2) 32(3.908,2.4) 33(3.908,2.8) 34(3.908,3.2) 52(-3.908,3.2) 53(-3.908,2.8) 54(-3.908,2.4) 55(-3.908,2) 56(-3.908,1.6) 57(-3.908,1.2) 58(-3.908,0.8) 59(-3.908,0.4) 60(-3.908,0) 61(-3.908,-0.4) 62(-3.908,-0.8) 63(-3.908,-1.2) 64(-3.908,-1.6) 65(-3.908,-2) 66(-3.908,-2.4) 67(-3.908,-2.8) 68(-3.908,-3.2)
  rect 6.2x6.2 smd paste-100 mask+0.051: 69(0,0)
Top Overlay:
  circle w0.15: c-3.2,-4.54 r0.075
  lines w0.152: -4.076,-3.503 -4.076,-4.076 -3.503,-4.076 ; -4.076,3.503 -4.076,4.076 -3.503,4.076 ; 3.503,-4.076 4.076,-4.076 4.076,-3.503 ; 3.503,4.076 4.076,4.076 4.076,3.503
Top Paste:
  drawing of 69 lines, arcs and shapes, not listed
Mechanical 6:
  circle w0.4: c-3.2,-4.3 r0.2
Mechanical 15:
  drawing of 74 lines, arcs and shapes, not listed
3D body "QFN-68_L8.0-W8.0-P0.40-BL-EP6.2.stp": height 0.75, standoff 0, extent -4,-4 4,4

## QFN-72_L10.0-W10.0-P0.50-BL-EP6.2 [mm]
pads (73):
  rect 0.28x0.665 smd paste-100 mask+0.05: 1(-4.25,-4.907) 2(-3.75,-4.907) 3(-3.25,-4.907) 4(-2.75,-4.907) 5(-2.25,-4.907) 6(-1.75,-4.907) 7(-1.25,-4.907) 8(-0.75,-4.907) 9(-0.25,-4.907) 10(0.25,-4.907) 11(0.75,-4.907) 12(1.25,-4.907) 13(1.75,-4.907) 14(2.25,-4.907) 15(2.75,-4.907) 16(3.25,-4.907) 17(3.75,-4.907) 18(4.25,-4.907) 37(4.25,4.907) 38(3.75,4.907) 39(3.25,4.907) 40(2.75,4.907) 41(2.25,4.907) 42(1.75,4.907) 43(1.25,4.907) 44(0.75,4.907) 45(0.25,4.907) 46(-0.25,4.907) 47(-0.75,4.907) 48(-1.25,4.907) 49(-1.75,4.907) 50(-2.25,4.907) 51(-2.75,4.907) 52(-3.25,4.907) 53(-3.75,4.907) 54(-4.25,4.907)
  rect 0.665x0.28 smd paste-100 mask+0.05: 19(4.908,-4.25) 20(4.908,-3.75) 21(4.908,-3.25) 22(4.908,-2.75) 23(4.908,-2.25) 24(4.908,-1.75) 25(4.908,-1.25) 26(4.908,-0.75) 27(4.908,-0.25) 28(4.908,0.25) 29(4.908,0.75) 30(4.908,1.25) 31(4.908,1.75) 32(4.908,2.25) 33(4.908,2.75) 34(4.908,3.25) 35(4.908,3.75) 36(4.908,4.25) 55(-4.908,4.25) 56(-4.908,3.75) 57(-4.908,3.25) 58(-4.908,2.75) 59(-4.908,2.25) 60(-4.908,1.75) 61(-4.908,1.25) 62(-4.908,0.75) 63(-4.908,0.25) 64(-4.908,-0.25) 65(-4.908,-0.75) 66(-4.908,-1.25) 67(-4.908,-1.75) 68(-4.908,-2.25) 69(-4.908,-2.75) 70(-4.908,-3.25) 71(-4.908,-3.75) 72(-4.908,-4.25)
  rect 6.2x6.2 smd paste-100 mask+0.05: 73(0,0)
Top Overlay:
  circle w0.2: c-4.699,-5.461 r0.1
  lines w0.152: -5.076,-4.58 -5.076,-5.076 -4.58,-5.076 ; -5.076,4.581 -5.076,5.076 -4.58,5.076 ; 4.581,-5.076 5.076,-5.076 5.076,-4.58 ; 4.581,5.076 5.076,5.076 5.076,4.581
Top Paste:
  drawing of 73 lines, arcs and shapes, not listed
Mechanical 6:
  circle w0.2: c-4.699,-5.461 r0.1
Mechanical 15:
  drawing of 78 lines, arcs and shapes, not listed
3D body "QFN50P1000X1000X90_HS-73N.step": height 0.9, standoff 0, extent -5.01,-5.01 5.01,5.01

## QFN-76-1EP_9x9mm_P0.4mm_EP6.3x6.3mm_ThermalVias [mm] "QFN, 76-Leads, Body 9.00x9.00mm, Pitch 0.40mm, Thermal Pad 6.30x6.30mm, IPC Low Density"
height 0.86
pads (77):
  oval 1.3x0.2 smd: 1(-4.7,3.6) 2(-4.7,3.2) 3(-4.7,2.8) 4(-4.7,2.4) 5(-4.7,2) 6(-4.7,1.6) 7(-4.7,1.2) 8(-4.7,0.8) 9(-4.7,0.4) 10(-4.7,0) 11(-4.7,-0.4) 12(-4.7,-0.8) 13(-4.7,-1.2) 14(-4.7,-1.6) 15(-4.7,-2) 16(-4.7,-2.4) 17(-4.7,-2.8) 18(-4.7,-3.2) 19(-4.7,-3.6) 39(4.7,-3.6) 40(4.7,-3.2) 41(4.7,-2.8) 42(4.7,-2.4) 43(4.7,-2) 44(4.7,-1.6) 45(4.7,-1.2) 46(4.7,-0.8) 47(4.7,-0.4) 48(4.7,0) 49(4.7,0.4) 50(4.7,0.8) 51(4.7,1.2) 52(4.7,1.6) 53(4.7,2) 54(4.7,2.4) 55(4.7,2.8) 56(4.7,3.2) 57(4.7,3.6)
  oval 0.2x1.3 smd: 20(-3.6,-4.7) 21(-3.2,-4.7) 22(-2.8,-4.7) 23(-2.4,-4.7) 24(-2,-4.7) 25(-1.6,-4.7) 26(-1.2,-4.7) 27(-0.8,-4.7) 28(-0.4,-4.7) 29(0,-4.7) 30(0.4,-4.7) 31(0.8,-4.7) 32(1.2,-4.7) 33(1.6,-4.7) 34(2,-4.7) 35(2.4,-4.7) 36(2.8,-4.7) 37(3.2,-4.7) 38(3.6,-4.7) 58(3.6,4.7) 59(3.2,4.7) 60(2.8,4.7) 61(2.4,4.7) 62(2,4.7) 63(1.6,4.7) 64(1.2,4.7) 65(0.8,4.7) 66(0.4,4.7) 67(0,4.7) 68(-0.4,4.7) 69(-0.8,4.7) 70(-1.2,4.7) 71(-1.6,4.7) 72(-2,4.7) 73(-2.4,4.7) 74(-2.8,4.7) 75(-3.2,4.7) 76(-3.6,4.7)
  rect 6.3x6.3 smd: 77(0,0)
via -2.75,2.75 diameter 0.5 hole 0.3
via -1.65,2.75 diameter 0.5 hole 0.3
via -0.55,2.75 diameter 0.5 hole 0.3
via 0.55,2.75 diameter 0.5 hole 0.3
via 1.65,2.75 diameter 0.5 hole 0.3
via 2.75,2.75 diameter 0.5 hole 0.3
via -2.75,1.65 diameter 0.5 hole 0.3
via -1.65,1.65 diameter 0.5 hole 0.3
via -0.55,1.65 diameter 0.5 hole 0.3
via 0.55,1.65 diameter 0.5 hole 0.3
via 1.65,1.65 diameter 0.5 hole 0.3
via 2.75,1.65 diameter 0.5 hole 0.3
via -2.75,0.55 diameter 0.5 hole 0.3
via -1.65,0.55 diameter 0.5 hole 0.3
via -0.55,0.55 diameter 0.5 hole 0.3
via 0.55,0.55 diameter 0.5 hole 0.3
via 1.65,0.55 diameter 0.5 hole 0.3
via 2.75,0.55 diameter 0.5 hole 0.3
via -2.75,-0.55 diameter 0.5 hole 0.3
via -1.65,-0.55 diameter 0.5 hole 0.3
via -0.55,-0.55 diameter 0.5 hole 0.3
via 0.55,-0.55 diameter 0.5 hole 0.3
via 1.65,-0.55 diameter 0.5 hole 0.3
via 2.75,-0.55 diameter 0.5 hole 0.3
via -2.75,-1.65 diameter 0.5 hole 0.3
via -1.65,-1.65 diameter 0.5 hole 0.3
via -0.55,-1.65 diameter 0.5 hole 0.3
via 0.55,-1.65 diameter 0.5 hole 0.3
via 1.65,-1.65 diameter 0.5 hole 0.3
via 2.75,-1.65 diameter 0.5 hole 0.3
via -2.75,-2.75 diameter 0.5 hole 0.3
via -1.65,-2.75 diameter 0.5 hole 0.3
via -0.55,-2.75 diameter 0.5 hole 0.3
via 0.55,-2.75 diameter 0.5 hole 0.3
via 1.65,-2.75 diameter 0.5 hole 0.3
via 2.75,-2.75 diameter 0.5 hole 0.3
Top Overlay:
  circle w0.25: c-5.35,4.55 r0.125
  lines w0.2: -4.7,-4.1 -4.7,-4.7 -4.1,-4.7 ; -4.7,4.1 -4.7,4.7 -4.1,4.7 ; 4.1,-4.7 4.7,-4.7 4.7,-4.1 ; 4.1,4.7 4.7,4.7 4.7,4.1
Mechanical 13:
  circle w0.1: c-3.65,3.65 r0.5
  lines w0.1: -4.55,-4.55 -4.55,4.55 4.55,4.55 4.55,-4.55 -4.55,-4.55
Mechanical 15:
  lines w0.05: -5.45,-5.45 -5.45,5.45 5.45,5.45 5.45,-5.45 -5.45,-5.45
  lines w0.1: -0.5,0 0.5,0 ; 0,-0.5 0,0.5
3D body "QFN40P900X900X86_HS-77M.step": height 0.86, standoff 0, extent -4.57,-4.57 4.57,4.57

## QFN-76_L9.0-W9.0-P0.40-BL-EP [mm]
pads (77):
  oval 0.2x0.8 smd mask+0.051: 1(-3.6,-4.399) 2(-3.2,-4.399) 3(-2.8,-4.399) 4(-2.4,-4.399) 5(-2,-4.399) 6(-1.6,-4.399) 7(-1.2,-4.399) 8(-0.8,-4.399) 9(-0.4,-4.399) 10(0,-4.399) 11(0.4,-4.399) 12(0.8,-4.399) 13(1.2,-4.399) 14(1.6,-4.399) 15(2,-4.399) 16(2.4,-4.399) 17(2.8,-4.399) 18(3.2,-4.399) 19(3.6,-4.399) 39(3.6,4.399) 40(3.2,4.399) 41(2.8,4.399) 42(2.4,4.399) 43(2,4.399) 44(1.6,4.399) 45(1.2,4.399) 46(0.8,4.399) 47(0.4,4.399) 48(0,4.399) 49(-0.4,4.399) 50(-0.8,4.399) 51(-1.2,4.399) 52(-1.6,4.399) 53(-2,4.399) 54(-2.4,4.399) 55(-2.8,4.399) 56(-3.2,4.399) 57(-3.6,4.399)
  oval 0.8x0.2 smd mask+0.051: 20(4.399,-3.6) 21(4.399,-3.2) 22(4.399,-2.8) 23(4.399,-2.4) 24(4.399,-2) 25(4.399,-1.6) 26(4.399,-1.2) 27(4.399,-0.8) 28(4.399,-0.4) 29(4.399,0) 30(4.399,0.4) 31(4.399,0.8) 32(4.399,1.2) 33(4.399,1.6) 34(4.399,2) 35(4.399,2.4) 36(4.399,2.8) 37(4.399,3.2) 38(4.399,3.6) 58(-4.399,3.6) 59(-4.399,3.2) 60(-4.399,2.8) 61(-4.399,2.4) 62(-4.399,2) 63(-4.399,1.6) 64(-4.399,1.2) 65(-4.399,0.8) 66(-4.399,0.4) 67(-4.399,0) 68(-4.399,-0.4) 69(-4.399,-0.8) 70(-4.399,-1.2) 71(-4.399,-1.6) 72(-4.399,-2) 73(-4.399,-2.4) 74(-4.399,-2.8) 75(-4.399,-3.2) 76(-4.399,-3.6)
  rect 5.6x5.6 smd mask+0.051: 77(0,0)
Top Overlay:
  region: -3.94,-4.5 -4.5,-4.5 -4.5,-4.064
  lines w0.254: -4.5,-3.94 -4.5,-4.5 -3.94,-4.5 -4.5,-3.94 ; -4.5,3.94 -4.5,4.5 -3.94,4.5 ; 3.94,-4.5 4.5,-4.5 4.5,-3.94 ; 3.94,4.5 4.5,4.5 4.5,3.94
  lines w0.3: -4.191,-4.826 ccw(c-4.19,-4.976) -4.189,-4.826
Top Paste:
  drawing of 77 lines, arcs and shapes, not listed
Mechanical 6:
  circle w0.3: c-3.804,-4.8 r0.15
Mechanical 13:
  circle w0.1: c-3.65,-3.65 r0.5
  lines w0.1: -4.55,-4.55 -4.55,4.55 4.55,4.55 4.55,-4.55 -4.55,-4.55
Mechanical 15:
  drawing of 82 lines, arcs and shapes, not listed
3D body "QFN40P900X900X86_HS-77M.step": height 0.86, standoff 0, extent -4.57,-4.57 4.57,4.57

## SMD3225-6P [mm] "SON, 6-Leads, Body 3.20x2.50mm, Pitch 1.10mm, IPC Medium Density"
height 0.75
pads (6):
  rect 1x1.05 smd: 1(-1.06,1.125) 3(-1.06,-1.125) 4(1.06,-1.125) 6(1.06,1.125)
  rect 1x0.65 smd: 2(-1.06,0) 5(1.06,0)
Top Overlay:
  circle w0.2: c-1.825,1.85 r0.05
  lines w0.2: -0.4,-1.75 0.4,-1.75 ; -0.4,1.75 0.4,1.75
Mechanical 13:
  circle w0.1: c-0.35,0.7 r0.5
  lines w0.1: -1.25,-1.6 1.25,-1.6 1.25,1.6 -1.25,1.6 -1.25,-1.6
Mechanical 15:
  lines w0.05: -1.835,-1.85 1.835,-1.85 1.835,1.85 -1.835,1.85 -1.835,-1.85
  lines w0.1: -0.5,0 0.5,0 ; 0,-0.5 0,0.5
3D body "SON110P250X75-6N.step": height 0.75, standoff 0, extent -1.25,-1.6 1.25,1.6

## SON-5_3_3x3_3mm_P0.65mm [mm] "SON, 8-Leads, Body 3.30x3.30mm, Pitch 0.65mm, Thermal Pad 2.50x1.55mm, IPC Medium Density"
height 1
pads (9):
  rect 0.63x0.5 smd: 1(-1.435,0.975) 2(-1.435,0.325) 3(-1.435,-0.325) 4(-1.435,-0.975) 5(1.435,-0.975) 6(1.435,-0.325) 7(1.435,0.325) 8(1.435,0.975)
  rect 1.9x2.45 smd: 5(0.39,0)
Top Overlay:
  circle w0.2: c-2.2,1.8 r0.05
  lines w0.2: -1.8,-1.55 -1.8,-1.8 -1.26,-1.8 ; -1.8,1.55 -1.8,1.8 -1.26,1.8 ; 1.26,-1.8 1.8,-1.8 1.8,-1.55 ; 1.26,1.8 1.8,1.8 1.8,1.55
Mechanical 13:
  circle w0.1: c-0.75,0.75 r0.5
  lines w0.1: -1.65,-1.65 1.65,-1.65 1.65,1.65 -1.65,1.65 -1.65,-1.65
Mechanical 15:
  lines w0.05: -2,-1.9 2,-1.9 2,1.9 -2,1.9 -2,-1.9
  lines w0.1: -0.5,0 0.5,0 ; 0,-0.5 0,0.5
3D body "SON65P330X100_HS-9N.step": height 1, standoff 0, extent -1.651,-1.65 1.651,1.65